# Altium footprint library JST_S3B-XH-A.PcbLib: 1 footprints
Each footprint in its own frame and in the unit in brackets; x right, y up, seen from the top. Pads: shape width x height; smd on the part's side, far side on the other; paste and mask are expansions set on the pad; w line width, h text height; cw(c..) or ccw(c..) is an arc to the next point about the centre after c.
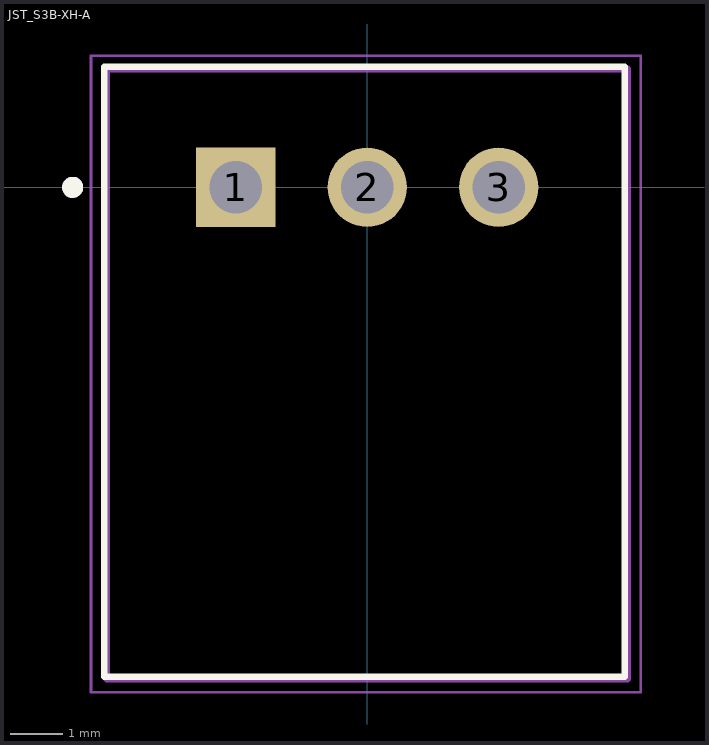
[diagram p0: the footprint, top view; thin cyan lines are the x and y axes]

## JST_S3B-XH-A [mm]
pads (3):
  rect 1.508x1.508 hole 1: 1(-2.5,0)
  round 1.508 hole 1: 2(0,0) 3(2.5,0)
Top Overlay:
  circle w0.2: c-5.6,0 r0.1
  lines w0.127: -5,-9.309 -5,2.291 4.9,2.291 4.9,-9.309 -5,-9.309
Mechanical 13:
  circle w0.2: c-5.6,0 r0.1
  lines w0.127: -4.95,-9.35 4.95,-9.35 4.95,2.25 -4.95,2.25 -4.95,-9.35
Mechanical 15:
  lines w0.05: -5.25,-9.6 -5.25,2.5 5.2,2.5 5.2,-9.6 -5.25,-9.6
3D body "S3B-XH-A.STEP": height 6.16, standoff -3.39, extent -4.95,-9.25 4.95,2.25